# EAGLE library part DML3006LFDS (library Bauteile)
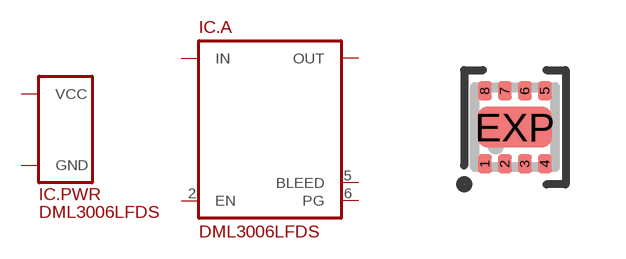
[diagram p170: symbol with the pads of DFN8_2X2; footprint DFN8_2X2]

Designator prefix IC; gates .PWR=SUPPLY_VCC/GND .A=DML3006LFDS

## DML3006LFDS  [DFN8_2X2]
1  .A:IN
2  .A:EN
3  .PWR:VCC
4  .PWR:GND
5  .A:BLEED
6  .A:PG
7  .A:OUT
8  .A:OUT
EXP  .A:IN

## Footprint DFN8_2X2 (pad centres in mm)
smd 0.35 x 0.48: 1 -0.75,-0.912; 2 -0.25,-0.912; 3 0.25,-0.912; 4 0.75,-0.912; 5 0.75,0.912; 6 0.25,0.912; 7 -0.25,0.912; 8 -0.75,0.912
smd 1.85 x 1.02: EXP 0,0